# EAGLE library part FDC637BNZ (library BMS Lbr)
Logic Level N-Channel MOSFET for controlling balancing
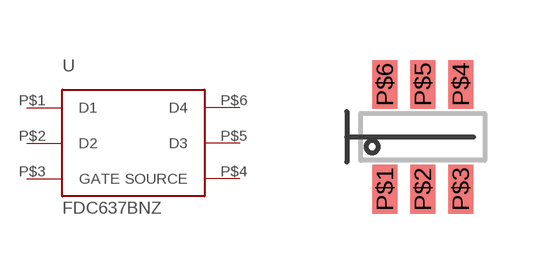
[diagram p1: symbol with the pads of SOT-23-6; footprint SOT-23-6]

Designator prefix -

## FDC637BNZ  [SOT-23-6]
P$1  D1
P$2  D2
P$3  GATE
P$4  SOURCE
P$5  D3
P$6  D4

## Footprint SOT-23-6 (pad centres in mm)
smd 0.62 x 1.22: P$1 -0.95,-1.31; P$2 0,-1.31; P$3 0.95,-1.31; P$4 0.95,1.31; P$5 0,1.31; P$6 -0.95,1.31